# EAGLE library part MOTORIZEDPOT_MOTORIZEDPOT (library motorized_potentiometer)
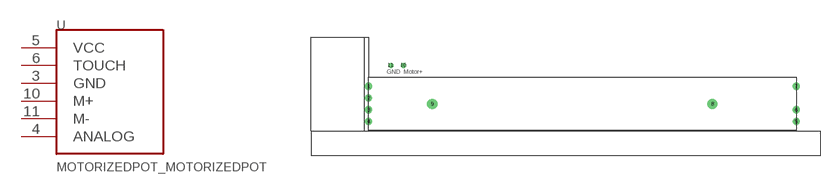
[diagram p1: symbol with the pads of MOTORIZEDPOT_MOTORIZEDPOT; footprint MOTORIZEDPOT_MOTORIZEDPOT]

Designator prefix -

## MOTORIZEDPOT_MOTORIZEDPOT  [MOTORIZEDPOT_MOTORIZEDPOT]
3  GND
4  ANALOG
5  VCC
6  TOUCH
10  M+
11  M-

## Footprint MOTORIZEDPOT_MOTORIZEDPOT (pad centres in mm)
drill 1.4: 1 -57.75,3.25; 2 -57.75,-0.25; 3 -57.75,-3.75; 4 -57.75,-7.25; 5 69.75,-7.25; 6 69.75,-3.75; 7 69.75,3.25
drill 2: 8 44.8,-2; 9 -38.8,-2
drill 1: 10 -47.34,9.43; 11 -51.15,9.43